# Altium schematic symbol library L.Schlib: 1 symbol
Pins are listed as number, name and electrical type; pins without a type are passive.

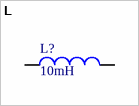
[diagram p0: symbol L]

## L
designator L?  value 10mH  (hidden comment: L)
Inductor
pins: 1, 2